# Altium schematic symbol library Converter_DCDC.SchLib: 947 symbols (part 6 of 12)
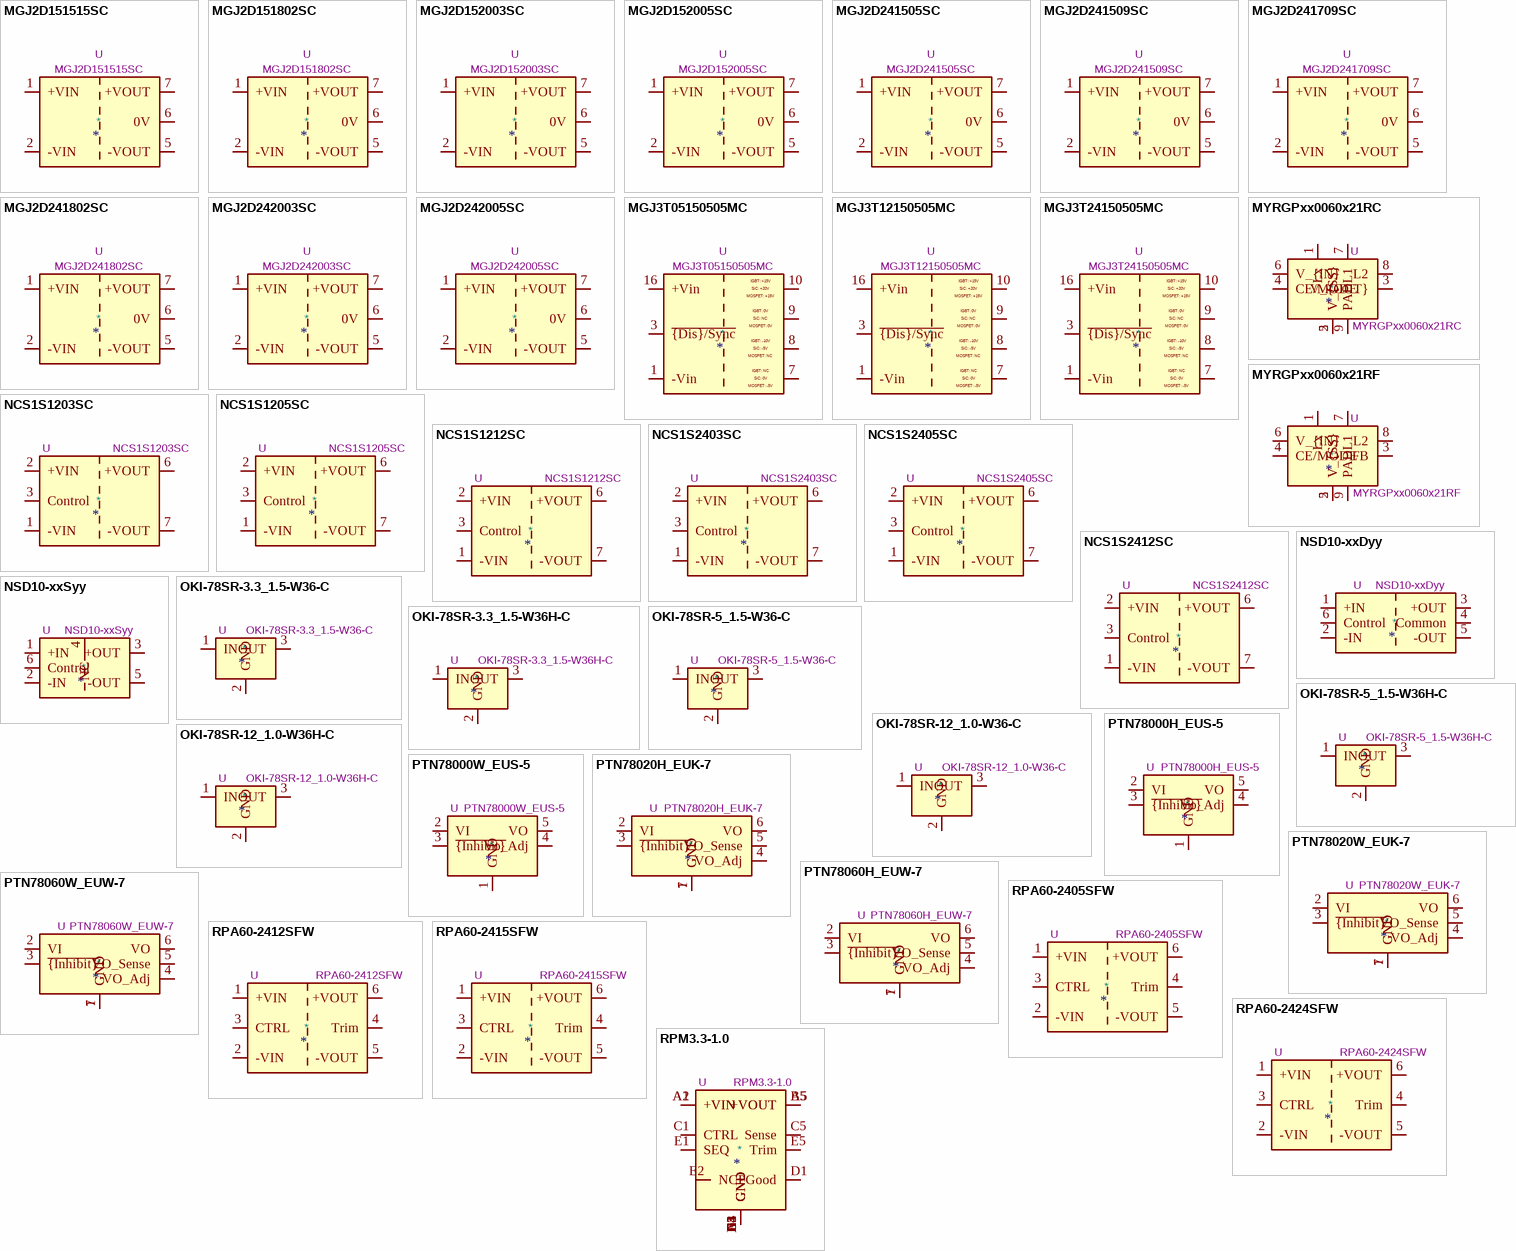
[diagram p28: symbols MGJ2D151515SC to RPM3.3-1.0]

## MGJ2D151802SC
designator *  value MGJ2D151802SC  Reference: U
5.2kVDC Isolated 2W Gate Drive, 15V Vin, +18V/-2.5V Vout; ki_keywords: DC/DC converter; ki_fp_filters: Converter*DCDC*Murata*MGJ2DxxxxxxSC*; Footprint: Converter_DCDC:Converter_DCDC_Murata_MGJ2DxxxxxxSC_THT; Datasheet: https://power.murata.com/pub/data/power/ncl/kdc_mgj2.pdf; Description_: 5.2kVDC Isolated 2W Gate Drive, 15V Vin, +18V/-2.5V Vout
pins: 1 +VIN, 2 -VIN, 5 -VOUT, 6 0V, 7 +VOUT

## MGJ2D152003SC
designator *  value MGJ2D152003SC  Reference: U
5.2kVDC Isolated 2W Gate Drive, 15V Vin, +20V/-3.5V Vout; ki_keywords: DC/DC converter; ki_fp_filters: Converter*DCDC*Murata*MGJ2DxxxxxxSC*; Footprint: Converter_DCDC:Converter_DCDC_Murata_MGJ2DxxxxxxSC_THT; Datasheet: https://power.murata.com/pub/data/power/ncl/kdc_mgj2.pdf; Description_: 5.2kVDC Isolated 2W Gate Drive, 15V Vin, +20V/-3.5V Vout
pins: 1 +VIN, 2 -VIN, 5 -VOUT, 6 0V, 7 +VOUT

## MGJ2D152005SC
designator *  value MGJ2D152005SC  Reference: U
5.2kVDC Isolated 2W Gate Drive, 15V Vin, +20V/-5V Vout; ki_keywords: DC/DC converter; ki_fp_filters: Converter*DCDC*Murata*MGJ2DxxxxxxSC*; Footprint: Converter_DCDC:Converter_DCDC_Murata_MGJ2DxxxxxxSC_THT; Datasheet: https://power.murata.com/pub/data/power/ncl/kdc_mgj2.pdf; Description_: 5.2kVDC Isolated 2W Gate Drive, 15V Vin, +20V/-5V Vout
pins: 1 +VIN, 2 -VIN, 5 -VOUT, 6 0V, 7 +VOUT

## MGJ2D241505SC
designator *  value MGJ2D241505SC  Reference: U
5.2kVDC Isolated 2W Gate Drive, 24V Vin, +15V/-5V Vout; ki_keywords: DC/DC converter; ki_fp_filters: Converter*DCDC*Murata*MGJ2DxxxxxxSC*; Footprint: Converter_DCDC:Converter_DCDC_Murata_MGJ2DxxxxxxSC_THT; Datasheet: https://power.murata.com/pub/data/power/ncl/kdc_mgj2.pdf; Description_: 5.2kVDC Isolated 2W Gate Drive, 24V Vin, +15V/-5V Vout
pins: 1 +VIN, 2 -VIN, 5 -VOUT, 6 0V, 7 +VOUT

## MGJ2D241509SC
designator *  value MGJ2D241509SC  Reference: U
5.2kVDC Isolated 2W Gate Drive, 24V Vin, +15V/-8.7V Vout; ki_keywords: DC/DC converter; ki_fp_filters: Converter*DCDC*Murata*MGJ2DxxxxxxSC*; Footprint: Converter_DCDC:Converter_DCDC_Murata_MGJ2DxxxxxxSC_THT; Datasheet: https://power.murata.com/pub/data/power/ncl/kdc_mgj2.pdf; Description_: 5.2kVDC Isolated 2W Gate Drive, 24V Vin, +15V/-8.7V Vout
pins: 1 +VIN, 2 -VIN, 5 -VOUT, 6 0V, 7 +VOUT

## MGJ2D241709SC
designator *  value MGJ2D241709SC  Reference: U
5.2kVDC Isolated 2W Gate Drive, 24V Vin, +17V/-9V Vout; ki_keywords: DC/DC converter; ki_fp_filters: Converter*DCDC*Murata*MGJ2DxxxxxxSC*; Footprint: Converter_DCDC:Converter_DCDC_Murata_MGJ2DxxxxxxSC_THT; Datasheet: https://power.murata.com/pub/data/power/ncl/kdc_mgj2.pdf; Description_: 5.2kVDC Isolated 2W Gate Drive, 24V Vin, +17V/-9V Vout
pins: 1 +VIN, 2 -VIN, 5 -VOUT, 6 0V, 7 +VOUT

## MGJ2D241802SC
designator *  value MGJ2D241802SC  Reference: U
5.2kVDC Isolated 2W Gate Drive, 24V Vin, +18V/-2.5V Vout; ki_keywords: DC/DC converter; ki_fp_filters: Converter*DCDC*Murata*MGJ2DxxxxxxSC*; Footprint: Converter_DCDC:Converter_DCDC_Murata_MGJ2DxxxxxxSC_THT; Datasheet: https://power.murata.com/pub/data/power/ncl/kdc_mgj2.pdf; Description_: 5.2kVDC Isolated 2W Gate Drive, 24V Vin, +18V/-2.5V Vout
pins: 1 +VIN, 2 -VIN, 5 -VOUT, 6 0V, 7 +VOUT

## MGJ2D242003SC
designator *  value MGJ2D242003SC  Reference: U
5.2kVDC Isolated 2W Gate Drive, 24V Vin, +20V/-3.5V Vout; ki_keywords: DC/DC converter; ki_fp_filters: Converter*DCDC*Murata*MGJ2DxxxxxxSC*; Footprint: Converter_DCDC:Converter_DCDC_Murata_MGJ2DxxxxxxSC_THT; Datasheet: https://power.murata.com/pub/data/power/ncl/kdc_mgj2.pdf; Description_: 5.2kVDC Isolated 2W Gate Drive, 24V Vin, +20V/-3.5V Vout
pins: 1 +VIN, 2 -VIN, 5 -VOUT, 6 0V, 7 +VOUT

## MGJ2D242005SC
designator *  value MGJ2D242005SC  Reference: U
5.2kVDC Isolated 2W Gate Drive, 24V Vin, +20V/-5V Vout; ki_keywords: DC/DC converter; ki_fp_filters: Converter*DCDC*Murata*MGJ2DxxxxxxSC*; Footprint: Converter_DCDC:Converter_DCDC_Murata_MGJ2DxxxxxxSC_THT; Datasheet: https://power.murata.com/pub/data/power/ncl/kdc_mgj2.pdf; Description_: 5.2kVDC Isolated 2W Gate Drive, 24V Vin, +20V/-5V Vout
pins: 1 +VIN, 2 -VIN, 5 -VOUT, 6 0V, 7 +VOUT

## MGJ3T05150505MC
designator *  value MGJ3T05150505MC  Reference: U
5.2kVDC Isolated 3W Gate Drive, 4.5-9V Vin, +15V/-5V or +15V/-10V or +20V/-5V Vout; ki_keywords: DC/DC converter; ki_fp_filters: Converter*DCDC*Murata*MGJ3*; Footprint: Converter_DCDC:Converter_DCDC_Murata_MGJ3; Datasheet: https://power.murata.com/datasheet?/data/power/ncl/kdc_mgj3.pdf; Description_: 5.2kVDC Isolated 3W Gate Drive, 4.5-9V Vin, +15V/-5V or +15V/-10V or +20V/-5V Vout
pins: 1 -Vin, 3 ~{{Dis}/Sync}, 7, 8, 9, 10, 16 +Vin
text: IGBT: +15V; SiC: +20V; MOSFET: +15V; IGBT: 0V; SiC: NC; MOSFET: 0V; IGBT: -10V; SiC: -5V; MOSFET: NC; IGBT: NC; SiC: 0V; MOSFET: -5V

## MGJ3T12150505MC
designator *  value MGJ3T12150505MC  Reference: U
5.2kVDC Isolated 3W Gate Drive, 9-18V Vin, +15V/-5V or +15V/-10V or +20V/-5V Vout; ki_keywords: DC/DC converter; ki_fp_filters: Converter*DCDC*Murata*MGJ3*; Footprint: Converter_DCDC:Converter_DCDC_Murata_MGJ3; Datasheet: https://power.murata.com/datasheet?/data/power/ncl/kdc_mgj3.pdf; Description_: 5.2kVDC Isolated 3W Gate Drive, 9-18V Vin, +15V/-5V or +15V/-10V or +20V/-5V Vout
pins: 1 -Vin, 3 ~{{Dis}/Sync}, 7, 8, 9, 10, 16 +Vin
text: IGBT: +15V; SiC: +20V; MOSFET: +15V; IGBT: 0V; SiC: NC; MOSFET: 0V; IGBT: -10V; SiC: -5V; MOSFET: NC; IGBT: NC; SiC: 0V; MOSFET: -5V

## MGJ3T24150505MC
designator *  value MGJ3T24150505MC  Reference: U
5.2kVDC Isolated 3W Gate Drive, 18-36V Vin, +15V/-5V or +15V/-10V or +20V/-5V Vout; ki_keywords: DC/DC converter; ki_fp_filters: Converter*DCDC*Murata*MGJ3*; Footprint: Converter_DCDC:Converter_DCDC_Murata_MGJ3; Datasheet: https://power.murata.com/datasheet?/data/power/ncl/kdc_mgj3.pdf; Description_: 5.2kVDC Isolated 3W Gate Drive, 18-36V Vin, +15V/-5V or +15V/-10V or +20V/-5V Vout
pins: 1 -Vin, 3 ~{{Dis}/Sync}, 7, 8, 9, 10, 16 +Vin
text: IGBT: +15V; SiC: +20V; MOSFET: +15V; IGBT: 0V; SiC: NC; MOSFET: 0V; IGBT: -10V; SiC: -5V; MOSFET: NC; IGBT: NC; SiC: 0V; MOSFET: -5V

## MYRGPxx0060x21RC
designator *  value MYRGPxx0060x21RC  Reference: U
PicoBK Inductor Built-in Step-Down “mini DC/DC” Converters. 3MHz, input 2V to 6V, fixed output voltage 0.8V to 4V, 600mA output current. 2.5 x 2.0mm.; ki_keywords: Fixed step-down converter; ki_fp_filters: Converter?DCDC?Murata?MYRxP*; Footprint: Converter_DCDC:Converter_DCDC_Murata_MYRxP; Datasheet: https://www.murata.com/products/productdata/8816428285982/MYRGP-WB-RC.pdf; Description_: PicoBK Inductor Built-in Step-Down “mini DC/DC” Converters. 3MHz, input 2V to 6V, fixed output voltage 0.8V to 4V, 600mA output current. 2.5 x 2.0mm.
pins: 1 Lx, 2 V_{SS}, 3 V_{OUT}, 4 CE/MODE, 5 V_{SS}, 6 V_{IN}, 7 L1, 8 L2, 9 PAD

## MYRGPxx0060x21RF
designator *  value MYRGPxx0060x21RF  Reference: U
PicoBK Inductor Built-in Step-Down “mini DC/DC” Converters. 3MHz, input 1.8V to 6V, adjustable output voltage 0.9V to 4V, 600mA output current. 2.5 x 2.0mm.; ki_keywords: Adjustable step-down converter; ki_fp_filters: Converter?DCDC?Murata?MYRxP*; Footprint: Converter_DCDC:Converter_DCDC_Murata_MYRxP; Datasheet: https://www.murata.com/products/productdata/8816428318750/MYRGP-WB-RF.pdf; Description_: PicoBK Inductor Built-in Step-Down “mini DC/DC” Converters. 3MHz, input 1.8V to 6V, adjustable output voltage 0.9V to 4V, 600mA output current. 2.5 x 2.0mm.
pins: 1 Lx, 2 V_{SS}, 3 FB, 4 CE/MODE, 5 V_{SS}, 6 V_{IN}, 7 L1, 8 L2, 9 PAD

## NCS1S1203SC
designator *  value NCS1S1203SC  Reference: U
Isolated 1W 4:1 input DC/DC converter module, 4.5-18V input voltage, 3.3V output voltage, SIP; ki_keywords: Murata isolated isolation dc-dc converter step-down; ki_fp_filters: Converter*DCDC*Murata*NCS1SxxxxSC*; Footprint: Converter_DCDC:Converter_DCDC_Murata_NCS1SxxxxSC_THT; Datasheet: https://power.murata.com/data/power/ncl/kdc_ncs1.pdf; Description_: Isolated 1W 4:1 input DC/DC converter module, 4.5-18V input voltage, 3.3V output voltage, SIP
pins: 1 -VIN, 2 +VIN, 3 Control, 6 +VOUT, 7 -VOUT

## NCS1S1205SC
designator *  value NCS1S1205SC  Reference: U
Isolated 1W 4:1 input DC/DC converter module, 4.5-18V input voltage, 5.0V output voltage, SIP; ki_keywords: Murata isolated isolation dc-dc converter step-down; ki_fp_filters: Converter*DCDC*Murata*NCS1SxxxxSC*; Footprint: Converter_DCDC:Converter_DCDC_Murata_NCS1SxxxxSC_THT; Datasheet: https://power.murata.com/data/power/ncl/kdc_ncs1.pdf; Description_: Isolated 1W 4:1 input DC/DC converter module, 4.5-18V input voltage, 5.0V output voltage, SIP
pins: 1 -VIN, 2 +VIN, 3 Control, 6 +VOUT, 7 -VOUT

## NCS1S1212SC
designator *  value NCS1S1212SC  Reference: U
Isolated 1W 4:1 input DC/DC converter module, 4.5-18V input voltage, 12.0V output voltage, SIP; ki_keywords: Murata isolated isolation dc-dc converter step-down; ki_fp_filters: Converter*DCDC*Murata*NCS1SxxxxSC*; Footprint: Converter_DCDC:Converter_DCDC_Murata_NCS1SxxxxSC_THT; Datasheet: https://power.murata.com/data/power/ncl/kdc_ncs1.pdf; Description_: Isolated 1W 4:1 input DC/DC converter module, 4.5-18V input voltage, 12.0V output voltage, SIP
pins: 1 -VIN, 2 +VIN, 3 Control, 6 +VOUT, 7 -VOUT

## NCS1S2403SC
designator *  value NCS1S2403SC  Reference: U
Isolated 1W 4:1 input DC/DC converter module, 9-36V input voltage, 3.3V output voltage, SIP; ki_keywords: Murata isolated isolation dc-dc converter step-down; ki_fp_filters: Converter*DCDC*Murata*NCS1SxxxxSC*; Footprint: Converter_DCDC:Converter_DCDC_Murata_NCS1SxxxxSC_THT; Datasheet: https://power.murata.com/data/power/ncl/kdc_ncs1.pdf; Description_: Isolated 1W 4:1 input DC/DC converter module, 9-36V input voltage, 3.3V output voltage, SIP
pins: 1 -VIN, 2 +VIN, 3 Control, 6 +VOUT, 7 -VOUT

## NCS1S2405SC
designator *  value NCS1S2405SC  Reference: U
Isolated 1W 4:1 input DC/DC converter module, 9-36V input voltage, 5.0V output voltage, SIP; ki_keywords: Murata isolated isolation dc-dc converter step-down; ki_fp_filters: Converter*DCDC*Murata*NCS1SxxxxSC*; Footprint: Converter_DCDC:Converter_DCDC_Murata_NCS1SxxxxSC_THT; Datasheet: https://power.murata.com/data/power/ncl/kdc_ncs1.pdf; Description_: Isolated 1W 4:1 input DC/DC converter module, 9-36V input voltage, 5.0V output voltage, SIP
pins: 1 -VIN, 2 +VIN, 3 Control, 6 +VOUT, 7 -VOUT

## NCS1S2412SC
designator *  value NCS1S2412SC  Reference: U
Isolated 1W 4:1 input DC/DC converter module, 9-36V input voltage, 12.0V output voltage, SIP; ki_keywords: Murata isolated isolation dc-dc converter step-down; ki_fp_filters: Converter*DCDC*Murata*NCS1SxxxxSC*; Footprint: Converter_DCDC:Converter_DCDC_Murata_NCS1SxxxxSC_THT; Datasheet: https://power.murata.com/data/power/ncl/kdc_ncs1.pdf; Description_: Isolated 1W 4:1 input DC/DC converter module, 9-36V input voltage, 12.0V output voltage, SIP
pins: 1 -VIN, 2 +VIN, 3 Control, 6 +VOUT, 7 -VOUT

## NSD10-xxDyy
designator *  value NSD10-xxDyy  Reference: U
MeanWell 10W DC/DC converter, dual fixed output, 1kVDC isolation; ki_keywords: meanwell isolated isolation dc-dc DC/DC converter regulated dual 10W; ki_fp_filters: Converter*DCDC*MeanWell*NSD10*; Footprint: Converter_DCDC:Converter_DCDC_MeanWell_NSD10_THT; Datasheet: https://www.meanwell.com/webapp/product/search.aspx?prod=NSD10-D; Description_: MeanWell 10W DC/DC converter, dual fixed output, 1kVDC isolation
pins: 1 +IN, 2 -IN, 3 +OUT, 4 Common, 5 -OUT, 6 Control

## NSD10-xxSyy
designator *  value NSD10-xxSyy  Reference: U
MeanWell 10W DC/DC converter, fixed output, 1kVDC isolation; ki_keywords: meanwell isolated isolation dc-dc DC/DC converter regulated single 10W; ki_fp_filters: Converter*DCDC*MeanWell*NSD10*; Footprint: Converter_DCDC:Converter_DCDC_MeanWell_NSD10_THT; Datasheet: https://www.meanwell.com/webapp/product/search.aspx?prod=NSD10-S; Description_: MeanWell 10W DC/DC converter, fixed output, 1kVDC isolation
pins: 1 +IN, 2 -IN, 3 +OUT, 4 NC, 5 -OUT, 6 Control

## OKI-78SR-3.3_1.5-W36-C
designator *  value OKI-78SR-3.3_1.5-W36-C  Reference: U
1.5A Step-Down DC/DC-Regulator, 7-36V input, 3.3V fixed Output Voltage, LM78xx replacement, -40°C to +85°C, OKI-78SR_Vertical; ki_keywords: dc-dc murata Step-Down DC/DC-Regulator; ki_fp_filters: Converter*DCDC*Murata*OKI*78SR*Vertical*; Footprint: Converter_DCDC:Converter_DCDC_Murata_OKI-78SR_Vertical; Datasheet: https://power.murata.com/data/power/oki-78sr.pdf; Description_: 1.5A Step-Down DC/DC-Regulator, 7-36V input, 3.3V fixed Output Voltage, LM78xx replacement, -40°C to +85°C, OKI-78SR_Vertical
pins: 1 IN, 2 GND, 3 OUT

## OKI-78SR-3.3_1.5-W36H-C
designator *  value OKI-78SR-3.3_1.5-W36H-C  Reference: U
1.5A Step-Down DC/DC-Regulator, 7-36V input, 3.3V fixed Output Voltage, LM78xx replacement, -40°C to +85°C, OKI-78SR_Horizontal; ki_keywords: dc-dc murata Step-Down DC/DC-Regulator; ki_fp_filters: Converter*DCDC*Murata*OKI*78SR*Horizontal*; Footprint: Converter_DCDC:Converter_DCDC_Murata_OKI-78SR_Horizontal; Datasheet: https://power.murata.com/data/power/oki-78sr.pdf; Description_: 1.5A Step-Down DC/DC-Regulator, 7-36V input, 3.3V fixed Output Voltage, LM78xx replacement, -40°C to +85°C, OKI-78SR_Horizontal
pins: 1 IN, 2 GND, 3 OUT

## OKI-78SR-5_1.5-W36-C
designator *  value OKI-78SR-5_1.5-W36-C  Reference: U
1.5A Step-Down DC/DC-Regulator, 7-36V input, 5V fixed Output Voltage, LM78xx replacement, -40°C to +85°C, OKI-78SR_Vertical; ki_keywords: dc-dc murata Step-Down DC/DC-Regulator; ki_fp_filters: Converter*DCDC*Murata*OKI*78SR*Vertical*; Footprint: Converter_DCDC:Converter_DCDC_Murata_OKI-78SR_Vertical; Datasheet: https://power.murata.com/data/power/oki-78sr.pdf; Description_: 1.5A Step-Down DC/DC-Regulator, 7-36V input, 5V fixed Output Voltage, LM78xx replacement, -40°C to +85°C, OKI-78SR_Vertical
pins: 1 IN, 2 GND, 3 OUT

## OKI-78SR-5_1.5-W36H-C
designator *  value OKI-78SR-5_1.5-W36H-C  Reference: U
1.5A Step-Down DC/DC-Regulator, 7-36V input, 5V fixed Output Voltage, LM78xx replacement, -40°C to +85°C, OKI-78SR_Horizontal; ki_keywords: dc-dc murata Step-Down DC/DC-Regulator; ki_fp_filters: Converter*DCDC*Murata*OKI*78SR*Horizontal*; Footprint: Converter_DCDC:Converter_DCDC_Murata_OKI-78SR_Horizontal; Datasheet: https://power.murata.com/data/power/oki-78sr.pdf; Description_: 1.5A Step-Down DC/DC-Regulator, 7-36V input, 5V fixed Output Voltage, LM78xx replacement, -40°C to +85°C, OKI-78SR_Horizontal
pins: 1 IN, 2 GND, 3 OUT

## OKI-78SR-12_1.0-W36-C
designator *  value OKI-78SR-12_1.0-W36-C  Reference: U
1.0A Step-Down DC/DC-Regulator, 15-36V input, 12V fixed Output Voltage, LM78xx replacement, -40°C to +85°C, OKI-78SR_Vertical; ki_keywords: dc-dc murata Step-Down DC/DC-Regulator; ki_fp_filters: Converter*DCDC*Murata*OKI*78SR*Vertical*; Footprint: Converter_DCDC:Converter_DCDC_Murata_OKI-78SR_Vertical; Datasheet: https://power.murata.com/data/power/oki-78sr.pdf; Description_: 1.0A Step-Down DC/DC-Regulator, 15-36V input, 12V fixed Output Voltage, LM78xx replacement, -40°C to +85°C, OKI-78SR_Vertical
pins: 1 IN, 2 GND, 3 OUT

## OKI-78SR-12_1.0-W36H-C
designator *  value OKI-78SR-12_1.0-W36H-C  Reference: U
1.0A Step-Down DC/DC-Regulator, 15-36V input, 12V fixed Output Voltage, LM78xx replacement, -40°C to +85°C, OKI-78SR_Horizontal; ki_keywords: dc-dc murata Step-Down DC/DC-Regulator; ki_fp_filters: Converter*DCDC*Murata*OKI*78SR*Horizontal*; Footprint: Converter_DCDC:Converter_DCDC_Murata_OKI-78SR_Horizontal; Datasheet: https://power.murata.com/data/power/oki-78sr.pdf; Description_: 1.0A Step-Down DC/DC-Regulator, 15-36V input, 12V fixed Output Voltage, LM78xx replacement, -40°C to +85°C, OKI-78SR_Horizontal
pins: 1 IN, 2 GND, 3 OUT

## PTN78000H_EUS-5
designator *  value PTN78000H_EUS-5  Reference: U
1.5A non-isolated switching regulator power module, 7-36V input voltage, 11.85-22V output voltage, EUS-5; ki_keywords: texas dc-dc converter step down buck; ki_fp_filters: Texas*EUS*R?PDSS?T5*; Footprint: Module:Texas_EUS_R-PDSS-T5_THT; Datasheet: https://www.ti.com/lit/ds/symlink/ptn78000w.pdf; Description_: 1.5A non-isolated switching regulator power module, 7-36V input voltage, 11.85-22V output voltage, EUS-5
pins: 1 GND, 2 VI, 3 ~{{Inhibit}}, 4 Vo_Adj, 5 VO

## PTN78000W_EUS-5
designator *  value PTN78000W_EUS-5  Reference: U
1.5A non-isolated switching regulator power module, 7-36V input voltage, 2.5-12.6V output voltage, EUS-5; ki_keywords: texas dc-dc converter step down buck; ki_fp_filters: Texas*EUS*R?PDSS?T5*; Footprint: Module:Texas_EUS_R-PDSS-T5_THT; Datasheet: https://www.ti.com/lit/ds/symlink/ptn78000w.pdf; Description_: 1.5A non-isolated switching regulator power module, 7-36V input voltage, 2.5-12.6V output voltage, EUS-5
pins: 1 GND, 2 VI, 3 ~{{Inhibit}}, 4 Vo_Adj, 5 VO

## PTN78020H_EUK-7
designator *  value PTN78020H_EUK-7  Reference: U
6A non-isolated switching regulator power module, 7-36V input voltage, 11.85-22V output voltage, EUK-7; ki_keywords: texas dc-dc converter step down buck; ki_fp_filters: Texas*EUK*R?PDSS?T7*; Footprint: Module:Texas_EUK_R-PDSS-T7_THT; Datasheet: https://www.ti.com/lit/ds/symlink/ptn78020w.pdf; Description_: 6A non-isolated switching regulator power module, 7-36V input voltage, 11.85-22V output voltage, EUK-7
pins: 1 GND, 2 VI, 3 ~{{Inhibit}}, 4 VO_Adj, 5 VO_Sense, 6 VO, 7 GND

## PTN78020W_EUK-7
designator *  value PTN78020W_EUK-7  Reference: U
6A non-isolated switching regulator power module, 7-36V input voltage, 2.5-12.6V output voltage, EUK-7; ki_keywords: texas dc-dc converter step down buck; ki_fp_filters: Texas*EUK*R?PDSS?T7*; Footprint: Module:Texas_EUK_R-PDSS-T7_THT; Datasheet: https://www.ti.com/lit/ds/symlink/ptn78020w.pdf; Description_: 6A non-isolated switching regulator power module, 7-36V input voltage, 2.5-12.6V output voltage, EUK-7
pins: 1 GND, 2 VI, 3 ~{{Inhibit}}, 4 VO_Adj, 5 VO_Sense, 6 VO, 7 GND

## PTN78060H_EUW-7
designator *  value PTN78060H_EUW-7  Reference: U
3A non-isolated switching regulator power module, 7-36V input voltage, 11.85-22V output voltage, EUW-7; ki_keywords: texas dc-dc converter step down buck; ki_fp_filters: Texas*EUW*R?PDSS?T7*; Footprint: Module:Texas_EUW_R-PDSS-T7_THT; Datasheet: https://www.ti.com/lit/ds/symlink/ptn78060w.pdf; Description_: 3A non-isolated switching regulator power module, 7-36V input voltage, 11.85-22V output voltage, EUW-7
pins: 1 GND, 2 VI, 3 ~{{Inhibit}}, 4 VO_Adj, 5 VO_Sense, 6 VO, 7 GND

## PTN78060W_EUW-7
designator *  value PTN78060W_EUW-7  Reference: U
3A non-isolated switching regulator power module, 7-36V input voltage, 2.5-12.6V output voltage, EUW-7; ki_keywords: texas dc-dc converter step down buck; ki_fp_filters: Texas*EUW*R?PDSS?T7*; Footprint: Module:Texas_EUW_R-PDSS-T7_THT; Datasheet: https://www.ti.com/lit/ds/symlink/ptn78060w.pdf; Description_: 3A non-isolated switching regulator power module, 7-36V input voltage, 2.5-12.6V output voltage, EUW-7
pins: 1 GND, 2 VI, 3 ~{{Inhibit}}, 4 VO_Adj, 5 VO_Sense, 6 VO, 7 GND

## RPA60-2405SFW
designator *  value RPA60-2405SFW  Reference: U
Isolated 60W 4:1 input DC/DC converter module, 9-36V input voltage, 5V output voltage, DIP; ki_keywords: isolated isolation dc-dc converter step-down; ki_fp_filters: Converter*DCDC*RECOM*RPA60?xxxxSFW*; Footprint: Converter_DCDC:Converter_DCDC_RECOM_RPA60-xxxxSFW; Datasheet: https://recom-power.com/pdf/Powerline_DC-DC/RPA60-FW.pdf; Description_: Isolated 60W 4:1 input DC/DC converter module, 9-36V input voltage, 5V output voltage, DIP
pins: 1 +VIN, 2 -VIN, 3 CTRL, 4 Trim, 5 -VOUT, 6 +VOUT

## RPA60-2412SFW
designator *  value RPA60-2412SFW  Reference: U
Isolated 60W 4:1 input DC/DC converter module, 9-36V input voltage, 12V output voltage, DIP; ki_keywords: isolated isolation dc-dc converter step-down; ki_fp_filters: Converter*DCDC*RECOM*RPA60?xxxxSFW*; Footprint: Converter_DCDC:Converter_DCDC_RECOM_RPA60-xxxxSFW; Datasheet: https://recom-power.com/pdf/Powerline_DC-DC/RPA60-FW.pdf; Description_: Isolated 60W 4:1 input DC/DC converter module, 9-36V input voltage, 12V output voltage, DIP
pins: 1 +VIN, 2 -VIN, 3 CTRL, 4 Trim, 5 -VOUT, 6 +VOUT

## RPA60-2415SFW
designator *  value RPA60-2415SFW  Reference: U
Isolated 60W 4:1 input DC/DC converter module, 9-36V input voltage, 15V output voltage, DIP; ki_keywords: isolated isolation dc-dc converter step-down; ki_fp_filters: Converter*DCDC*RECOM*RPA60?xxxxSFW*; Footprint: Converter_DCDC:Converter_DCDC_RECOM_RPA60-xxxxSFW; Datasheet: https://recom-power.com/pdf/Powerline_DC-DC/RPA60-FW.pdf; Description_: Isolated 60W 4:1 input DC/DC converter module, 9-36V input voltage, 15V output voltage, DIP
pins: 1 +VIN, 2 -VIN, 3 CTRL, 4 Trim, 5 -VOUT, 6 +VOUT

## RPA60-2424SFW
designator *  value RPA60-2424SFW  Reference: U
Isolated 60W 4:1 input DC/DC converter module, 9-36V input voltage, 24V output voltage, DIP; ki_keywords: isolated isolation dc-dc converter step-down; ki_fp_filters: Converter*DCDC*RECOM*RPA60?xxxxSFW*; Footprint: Converter_DCDC:Converter_DCDC_RECOM_RPA60-xxxxSFW; Datasheet: https://recom-power.com/pdf/Powerline_DC-DC/RPA60-FW.pdf; Description_: Isolated 60W 4:1 input DC/DC converter module, 9-36V input voltage, 24V output voltage, DIP
pins: 1 +VIN, 2 -VIN, 3 CTRL, 4 Trim, 5 -VOUT, 6 +VOUT

## RPM3.3-1.0
designator *  value RPM3.3-1.0  Reference: U
1A non-isolated switching regulator power module, 3-17V input voltage, 3.3V output voltage, DOSA; ki_keywords: Recom dc-dc converter; ki_fp_filters: Converter*DCDC*RECOM*RPM*; Footprint: Converter_DCDC:Converter_DCDC_RECOM_RPMx.x-x.0; Datasheet: https://www.recom-power.com/pdf/Innoline/RPM-1.0.pdf; Description_: 1A non-isolated switching regulator power module, 3-17V input voltage, 3.3V output voltage, DOSA
pins: A1 +VIN, A2 +VIN, A3 GND, A4 GND, A5 +VOUT, B1 GND, B2 GND, B3 GND, B4 GND, B5 +VOUT, C1 CTRL, C2 GND, C3 GND, C4 GND, C5 Sense, D1 PGood, D2 GND, D3 GND, D4 GND, D5 GND, E1 SEQ, E2 NC, E3 GND, E4 GND, E5 Trim

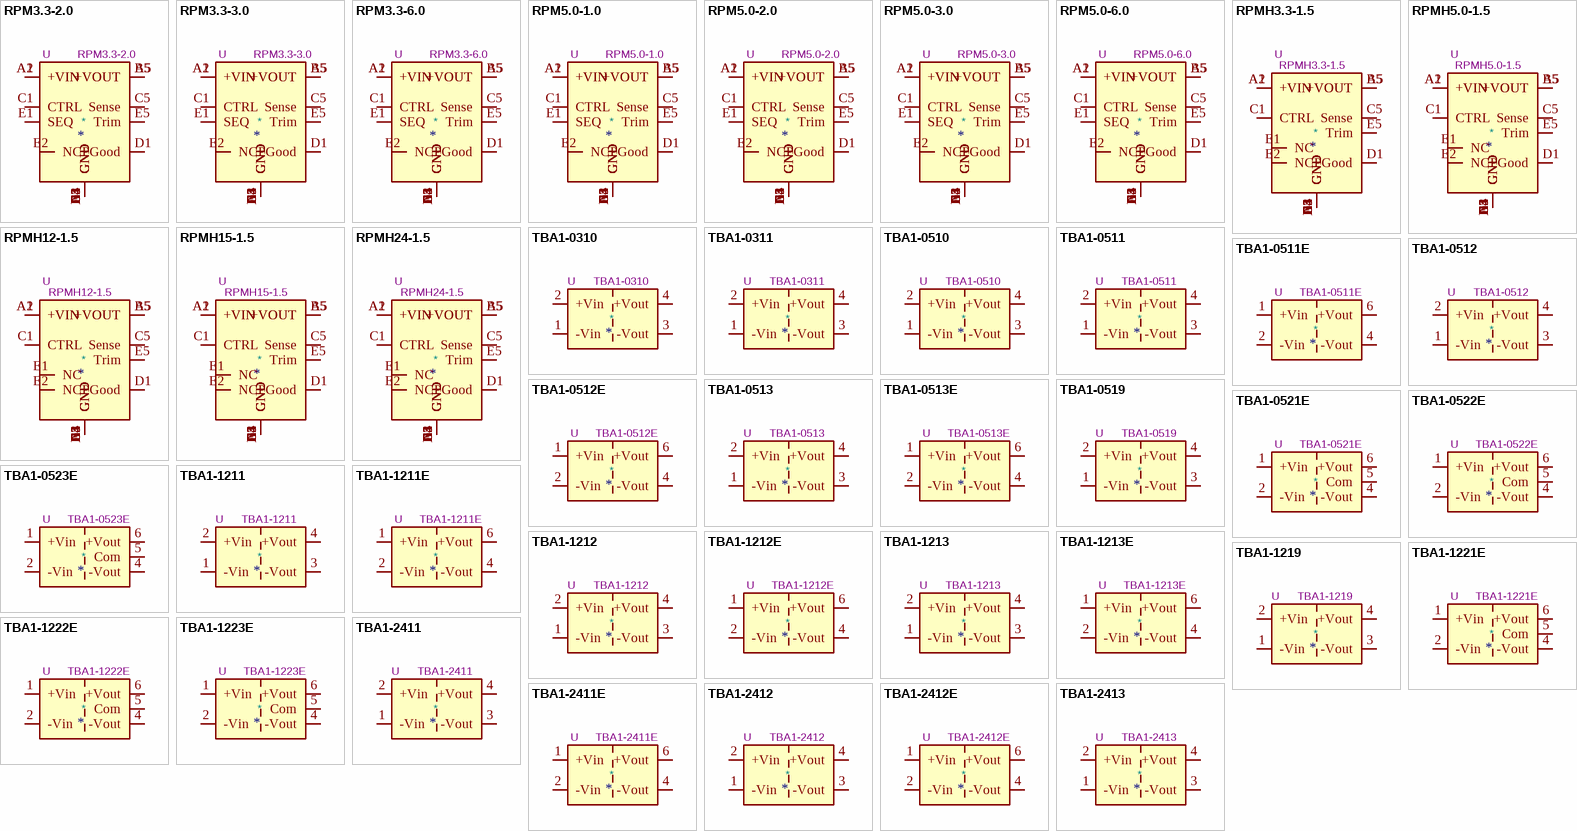
[diagram p12: symbols RPM3.3-2.0 to TBA1-2413]

## RPM3.3-2.0
designator *  value RPM3.3-2.0  Reference: U
2A non-isolated switching regulator power module, 3-17V input voltage, 3.3V output voltage, DOSA; ki_keywords: Recom dc-dc converter; ki_fp_filters: Converter*DCDC*RECOM*RPM*; Footprint: Converter_DCDC:Converter_DCDC_RECOM_RPMx.x-x.0; Datasheet: https://www.recom-power.com/pdf/Innoline/RPM-2.0.pdf; Description_: 2A non-isolated switching regulator power module, 3-17V input voltage, 3.3V output voltage, DOSA
pins: A1 +VIN, A2 +VIN, A3 GND, A4 GND, A5 +VOUT, B1 GND, B2 GND, B3 GND, B4 GND, B5 +VOUT, C1 CTRL, C2 GND, C3 GND, C4 GND, C5 Sense, D1 PGood, D2 GND, D3 GND, D4 GND, D5 GND, E1 SEQ, E2 NC, E3 GND, E4 GND, E5 Trim

## RPM3.3-3.0
designator *  value RPM3.3-3.0  Reference: U
3A non-isolated switching regulator power module, 3-17V input voltage, 3.3V output voltage, DOSA; ki_keywords: Recom dc-dc converter; ki_fp_filters: Converter*DCDC*RECOM*RPM*; Footprint: Converter_DCDC:Converter_DCDC_RECOM_RPMx.x-x.0; Datasheet: https://www.recom-power.com/pdf/Innoline/RPM-3.0.pdf; Description_: 3A non-isolated switching regulator power module, 3-17V input voltage, 3.3V output voltage, DOSA
pins: A1 +VIN, A2 +VIN, A3 GND, A4 GND, A5 +VOUT, B1 GND, B2 GND, B3 GND, B4 GND, B5 +VOUT, C1 CTRL, C2 GND, C3 GND, C4 GND, C5 Sense, D1 PGood, D2 GND, D3 GND, D4 GND, D5 GND, E1 SEQ, E2 NC, E3 GND, E4 GND, E5 Trim

## RPM3.3-6.0
designator *  value RPM3.3-6.0  Reference: U
6A non-isolated switching regulator power module, 4-15V input voltage, 3.3V output voltage, DOSA; ki_keywords: Recom dc-dc converter; ki_fp_filters: Converter*DCDC*RECOM*RPM*; Footprint: Converter_DCDC:Converter_DCDC_RECOM_RPMx.x-x.0; Datasheet: https://www.recom-power.com/pdf/Innoline/RPM-6.0.pdf; Description_: 6A non-isolated switching regulator power module, 4-15V input voltage, 3.3V output voltage, DOSA
pins: A1 +VIN, A2 +VIN, A3 GND, A4 GND, A5 +VOUT, B1 GND, B2 GND, B3 GND, B4 GND, B5 +VOUT, C1 CTRL, C2 GND, C3 GND, C4 GND, C5 Sense, D1 PGood, D2 GND, D3 GND, D4 GND, D5 GND, E1 SEQ, E2 NC, E3 GND, E4 GND, E5 Trim

## RPM5.0-1.0
designator *  value RPM5.0-1.0  Reference: U
1A non-isolated switching regulator power module, 3-17V input voltage, 5.0V output voltage, DOSA; ki_keywords: Recom dc-dc converter; ki_fp_filters: Converter*DCDC*RECOM*RPM*; Footprint: Converter_DCDC:Converter_DCDC_RECOM_RPMx.x-x.0; Datasheet: https://www.recom-power.com/pdf/Innoline/RPM-1.0.pdf; Description_: 1A non-isolated switching regulator power module, 3-17V input voltage, 5.0V output voltage, DOSA
pins: A1 +VIN, A2 +VIN, A3 GND, A4 GND, A5 +VOUT, B1 GND, B2 GND, B3 GND, B4 GND, B5 +VOUT, C1 CTRL, C2 GND, C3 GND, C4 GND, C5 Sense, D1 PGood, D2 GND, D3 GND, D4 GND, D5 GND, E1 SEQ, E2 NC, E3 GND, E4 GND, E5 Trim

## RPM5.0-2.0
designator *  value RPM5.0-2.0  Reference: U
2A non-isolated switching regulator power module, 3-17V input voltage, 5.0V output voltage, DOSA; ki_keywords: Recom dc-dc converter; ki_fp_filters: Converter*DCDC*RECOM*RPM*; Footprint: Converter_DCDC:Converter_DCDC_RECOM_RPMx.x-x.0; Datasheet: https://www.recom-power.com/pdf/Innoline/RPM-2.0.pdf; Description_: 2A non-isolated switching regulator power module, 3-17V input voltage, 5.0V output voltage, DOSA
pins: A1 +VIN, A2 +VIN, A3 GND, A4 GND, A5 +VOUT, B1 GND, B2 GND, B3 GND, B4 GND, B5 +VOUT, C1 CTRL, C2 GND, C3 GND, C4 GND, C5 Sense, D1 PGood, D2 GND, D3 GND, D4 GND, D5 GND, E1 SEQ, E2 NC, E3 GND, E4 GND, E5 Trim

## RPM5.0-3.0
designator *  value RPM5.0-3.0  Reference: U
3A non-isolated switching regulator power module, 3-17V input voltage, 5.0V output voltage, DOSA; ki_keywords: Recom dc-dc converter; ki_fp_filters: Converter*DCDC*RECOM*RPM*; Footprint: Converter_DCDC:Converter_DCDC_RECOM_RPMx.x-x.0; Datasheet: https://www.recom-power.com/pdf/Innoline/RPM-3.0.pdf; Description_: 3A non-isolated switching regulator power module, 3-17V input voltage, 5.0V output voltage, DOSA
pins: A1 +VIN, A2 +VIN, A3 GND, A4 GND, A5 +VOUT, B1 GND, B2 GND, B3 GND, B4 GND, B5 +VOUT, C1 CTRL, C2 GND, C3 GND, C4 GND, C5 Sense, D1 PGood, D2 GND, D3 GND, D4 GND, D5 GND, E1 SEQ, E2 NC, E3 GND, E4 GND, E5 Trim

## RPM5.0-6.0
designator *  value RPM5.0-6.0  Reference: U
6A non-isolated switching regulator power module, 4-15V input voltage, 5.0V output voltage, DOSA; ki_keywords: Recom dc-dc converter; ki_fp_filters: Converter*DCDC*RECOM*RPM*; Footprint: Converter_DCDC:Converter_DCDC_RECOM_RPMx.x-x.0; Datasheet: https://www.recom-power.com/pdf/Innoline/RPM-6.0.pdf; Description_: 6A non-isolated switching regulator power module, 4-15V input voltage, 5.0V output voltage, DOSA
pins: A1 +VIN, A2 +VIN, A3 GND, A4 GND, A5 +VOUT, B1 GND, B2 GND, B3 GND, B4 GND, B5 +VOUT, C1 CTRL, C2 GND, C3 GND, C4 GND, C5 Sense, D1 PGood, D2 GND, D3 GND, D4 GND, D5 GND, E1 SEQ, E2 NC, E3 GND, E4 GND, E5 Trim

## RPMH3.3-1.5
designator *  value RPMH3.3-1.5  Reference: U
1.5A non-isolated switching regulator power module, 5-60V input voltage, 3.3V output voltage; ki_keywords: Recom DC-DC converter; ki_fp_filters: Converter*DCDC*RECOM*RPM*; Footprint: Converter_DCDC:Converter_DCDC_RECOM_RPMx.x-x.0; Datasheet: https://recom-power.com/pdf/Innoline/RPMH-1.5.pdf; Description_: 1.5A non-isolated switching regulator power module, 5-60V input voltage, 3.3V output voltage
pins: A1 +VIN, A2 +VIN, A3 GND, A4 GND, A5 +VOUT, B1 GND, B2 GND, B3 GND, B4 GND, B5 +VOUT, C1 CTRL, C2 GND, C3 GND, C4 GND, C5 Sense, D1 PGood, D2 GND, D3 GND, D4 GND, D5 GND, E1 NC, E2 NC, E3 GND, E4 GND, E5 Trim

## RPMH5.0-1.5
designator *  value RPMH5.0-1.5  Reference: U
1.5A non-isolated switching regulator power module, 7-60V input voltage, 5V output voltage; ki_keywords: Recom DC-DC converter; ki_fp_filters: Converter*DCDC*RECOM*RPM*; Footprint: Converter_DCDC:Converter_DCDC_RECOM_RPMx.x-x.0; Datasheet: https://recom-power.com/pdf/Innoline/RPMH-1.5.pdf; Description_: 1.5A non-isolated switching regulator power module, 7-60V input voltage, 5V output voltage
pins: A1 +VIN, A2 +VIN, A3 GND, A4 GND, A5 +VOUT, B1 GND, B2 GND, B3 GND, B4 GND, B5 +VOUT, C1 CTRL, C2 GND, C3 GND, C4 GND, C5 Sense, D1 PGood, D2 GND, D3 GND, D4 GND, D5 GND, E1 NC, E2 NC, E3 GND, E4 GND, E5 Trim

## RPMH12-1.5
designator *  value RPMH12-1.5  Reference: U
1.5A non-isolated switching regulator power module, 14-60V input voltage, 12V output voltage; ki_keywords: Recom DC-DC converter; ki_fp_filters: Converter*DCDC*RECOM*RPM*; Footprint: Converter_DCDC:Converter_DCDC_RECOM_RPMx.x-x.0; Datasheet: https://recom-power.com/pdf/Innoline/RPMH-1.5.pdf; Description_: 1.5A non-isolated switching regulator power module, 14-60V input voltage, 12V output voltage
pins: A1 +VIN, A2 +VIN, A3 GND, A4 GND, A5 +VOUT, B1 GND, B2 GND, B3 GND, B4 GND, B5 +VOUT, C1 CTRL, C2 GND, C3 GND, C4 GND, C5 Sense, D1 PGood, D2 GND, D3 GND, D4 GND, D5 GND, E1 NC, E2 NC, E3 GND, E4 GND, E5 Trim

## RPMH15-1.5
designator *  value RPMH15-1.5  Reference: U
1.5A non-isolated switching regulator power module, 17-60V input voltage, 15V output voltage; ki_keywords: Recom DC-DC converter; ki_fp_filters: Converter*DCDC*RECOM*RPM*; Footprint: Converter_DCDC:Converter_DCDC_RECOM_RPMx.x-x.0; Datasheet: https://recom-power.com/pdf/Innoline/RPMH-1.5.pdf; Description_: 1.5A non-isolated switching regulator power module, 17-60V input voltage, 15V output voltage
pins: A1 +VIN, A2 +VIN, A3 GND, A4 GND, A5 +VOUT, B1 GND, B2 GND, B3 GND, B4 GND, B5 +VOUT, C1 CTRL, C2 GND, C3 GND, C4 GND, C5 Sense, D1 PGood, D2 GND, D3 GND, D4 GND, D5 GND, E1 NC, E2 NC, E3 GND, E4 GND, E5 Trim

## RPMH24-1.5
designator *  value RPMH24-1.5  Reference: U
1.5A non-isolated switching regulator power module, 26-60V input voltage, 24V output voltage; ki_keywords: Recom DC-DC converter; ki_fp_filters: Converter*DCDC*RECOM*RPM*; Footprint: Converter_DCDC:Converter_DCDC_RECOM_RPMx.x-x.0; Datasheet: https://recom-power.com/pdf/Innoline/RPMH-1.5.pdf; Description_: 1.5A non-isolated switching regulator power module, 26-60V input voltage, 24V output voltage
pins: A1 +VIN, A2 +VIN, A3 GND, A4 GND, A5 +VOUT, B1 GND, B2 GND, B3 GND, B4 GND, B5 +VOUT, C1 CTRL, C2 GND, C3 GND, C4 GND, C5 Sense, D1 PGood, D2 GND, D3 GND, D4 GND, D5 GND, E1 NC, E2 NC, E3 GND, E4 GND, E5 Trim

## TBA1-0310
designator *  value TBA1-0310  Reference: U
1W DC/DC converter unregulated, 2.97-3.63V input, 3.3V fixed output voltage, 260mA output, 1.5kVDC isolation, SIP-4; ki_keywords: Traco isolated dc-dc not-regulated non-regulated single; ki_fp_filters: Converter*DCDC*TRACO*TBA1*xxxx*THT*; Footprint: Converter_DCDC:Converter_DCDC_TRACO_TBA1-xxxx_THT; Datasheet: https://www.tracopower.com/products/tba1.pdf; Description_: 1W DC/DC converter unregulated, 2.97-3.63V input, 3.3V fixed output voltage, 260mA output, 1.5kVDC isolation, SIP-4
pins: 1 -Vin, 2 +Vin, 3 -Vout, 4 +Vout

## TBA1-0311
designator *  value TBA1-0311  Reference: U
1W DC/DC converter unregulated, 2.97-3.63V input, 5V fixed output voltage, 200mA output, 1.5kVDC isolation, SIP-4; ki_keywords: Traco isolated dc-dc not-regulated non-regulated single; ki_fp_filters: Converter*DCDC*TRACO*TBA1*xxxx*THT*; Footprint: Converter_DCDC:Converter_DCDC_TRACO_TBA1-xxxx_THT; Datasheet: https://www.tracopower.com/products/tba1.pdf; Description_: 1W DC/DC converter unregulated, 2.97-3.63V input, 5V fixed output voltage, 200mA output, 1.5kVDC isolation, SIP-4
pins: 1 -Vin, 2 +Vin, 3 -Vout, 4 +Vout

## TBA1-0510
designator *  value TBA1-0510  Reference: U
1W DC/DC converter unregulated, 4.5-5.5V input, 3.3V fixed output voltage, 260mA output, 1.5kVDC isolation, SIP-4; ki_keywords: Traco isolated dc-dc not-regulated non-regulated single; ki_fp_filters: Converter*DCDC*TRACO*TBA1*xxxx*THT*; Footprint: Converter_DCDC:Converter_DCDC_TRACO_TBA1-xxxx_THT; Datasheet: https://www.tracopower.com/products/tba1.pdf; Description_: 1W DC/DC converter unregulated, 4.5-5.5V input, 3.3V fixed output voltage, 260mA output, 1.5kVDC isolation, SIP-4
pins: 1 -Vin, 2 +Vin, 3 -Vout, 4 +Vout

## TBA1-0511
designator *  value TBA1-0511  Reference: U
1W DC/DC converter unregulated, 4.5-5.5V input, 5V fixed output voltage, 200mA output, 1.5kVDC isolation, SIP-4; ki_keywords: Traco isolated dc-dc not-regulated non-regulated single; ki_fp_filters: Converter*DCDC*TRACO*TBA1*xxxx*THT*; Footprint: Converter_DCDC:Converter_DCDC_TRACO_TBA1-xxxx_THT; Datasheet: https://www.tracopower.com/products/tba1.pdf; Description_: 1W DC/DC converter unregulated, 4.5-5.5V input, 5V fixed output voltage, 200mA output, 1.5kVDC isolation, SIP-4
pins: 1 -Vin, 2 +Vin, 3 -Vout, 4 +Vout

## TBA1-0511E
designator *  value TBA1-0511E  Reference: U
1W DC/DC converter unregulated, 4.5-5.5V input, 5V fixed output voltage, 200mA output, 1.5kVDC isolation, SIP-7; ki_keywords: Traco isolated isolation dc-dc converter not-regulated non-regulated single 1W; ki_fp_filters: Converter*DCDC*TRACO*TBA1*xxxxE*Single*; Footprint: Converter_DCDC:Converter_DCDC_TRACO_TBA1-xxxxE_Single_THT; Datasheet: https://www.tracopower.com/products/tba1e.pdf; Description_: 1W DC/DC converter unregulated, 4.5-5.5V input, 5V fixed output voltage, 200mA output, 1.5kVDC isolation, SIP-7
pins: 1 +Vin, 2 -Vin, 4 -Vout, 6 +Vout

## TBA1-0512
designator *  value TBA1-0512  Reference: U
1W DC/DC converter unregulated, 4.5-5.5V input, 12V fixed output voltage, 80mA output, 1.5kVDC isolation, SIP-4; ki_keywords: Traco isolated dc-dc not-regulated non-regulated single; ki_fp_filters: Converter*DCDC*TRACO*TBA1*xxxx*THT*; Footprint: Converter_DCDC:Converter_DCDC_TRACO_TBA1-xxxx_THT; Datasheet: https://www.tracopower.com/products/tba1.pdf; Description_: 1W DC/DC converter unregulated, 4.5-5.5V input, 12V fixed output voltage, 80mA output, 1.5kVDC isolation, SIP-4
pins: 1 -Vin, 2 +Vin, 3 -Vout, 4 +Vout

## TBA1-0512E
designator *  value TBA1-0512E  Reference: U
1W DC/DC converter unregulated, 4.5-5.5V input, 12V fixed output voltage, 84mA output, 1.5kVDC isolation, SIP-7; ki_keywords: Traco isolated isolation dc-dc converter not-regulated non-regulated single 1W; ki_fp_filters: Converter*DCDC*TRACO*TBA1*xxxxE*Single*; Footprint: Converter_DCDC:Converter_DCDC_TRACO_TBA1-xxxxE_Single_THT; Datasheet: https://www.tracopower.com/products/tba1e.pdf; Description_: 1W DC/DC converter unregulated, 4.5-5.5V input, 12V fixed output voltage, 84mA output, 1.5kVDC isolation, SIP-7
pins: 1 +Vin, 2 -Vin, 4 -Vout, 6 +Vout

## TBA1-0513
designator *  value TBA1-0513  Reference: U
1W DC/DC converter unregulated, 4.5-5.5V input, 15V fixed output voltage, 65mA output, 1.5kVDC isolation, SIP-4; ki_keywords: Traco isolated dc-dc not-regulated non-regulated single; ki_fp_filters: Converter*DCDC*TRACO*TBA1*xxxx*THT*; Footprint: Converter_DCDC:Converter_DCDC_TRACO_TBA1-xxxx_THT; Datasheet: https://www.tracopower.com/products/tba1.pdf; Description_: 1W DC/DC converter unregulated, 4.5-5.5V input, 15V fixed output voltage, 65mA output, 1.5kVDC isolation, SIP-4
pins: 1 -Vin, 2 +Vin, 3 -Vout, 4 +Vout

## TBA1-0513E
designator *  value TBA1-0513E  Reference: U
1W DC/DC converter unregulated, 4.5-5.5V input, 15V fixed output voltage, 66mA output, 1.5kVDC isolation, SIP-7; ki_keywords: Traco isolated isolation dc-dc converter not-regulated non-regulated single 1W; ki_fp_filters: Converter*DCDC*TRACO*TBA1*xxxxE*Single*; Footprint: Converter_DCDC:Converter_DCDC_TRACO_TBA1-xxxxE_Single_THT; Datasheet: https://www.tracopower.com/products/tba1e.pdf; Description_: 1W DC/DC converter unregulated, 4.5-5.5V input, 15V fixed output voltage, 66mA output, 1.5kVDC isolation, SIP-7
pins: 1 +Vin, 2 -Vin, 4 -Vout, 6 +Vout

## TBA1-0519
designator *  value TBA1-0519  Reference: U
1W DC/DC converter unregulated, 4.5-5.5V input, 9V fixed output voltage, 110mA output, 1.5kVDC isolation, SIP-4; ki_keywords: Traco isolated dc-dc not-regulated non-regulated single; ki_fp_filters: Converter*DCDC*TRACO*TBA1*xxxx*THT*; Footprint: Converter_DCDC:Converter_DCDC_TRACO_TBA1-xxxx_THT; Datasheet: https://www.tracopower.com/products/tba1.pdf; Description_: 1W DC/DC converter unregulated, 4.5-5.5V input, 9V fixed output voltage, 110mA output, 1.5kVDC isolation, SIP-4
pins: 1 -Vin, 2 +Vin, 3 -Vout, 4 +Vout

## TBA1-0521E
designator *  value TBA1-0521E  Reference: U
1W DC/DC converter unregulated, 4.5-5.5V input, ±5V fixed output voltage, 100mA each output, 1.5kVDC isolation, SIP-7; ki_keywords: Traco isolated isolation dc-dc DC/DC converter not-regulated non-regulated dual 1W; ki_fp_filters: Converter*DCDC*TRACO*TBA1*xxxxE*Dual*; Footprint: Converter_DCDC:Converter_DCDC_TRACO_TBA1-xxxxE_Dual_THT; Datasheet: https://www.tracopower.com/products/tba1e.pdf; Description_: 1W DC/DC converter unregulated, 4.5-5.5V input, ±5V fixed output voltage, 100mA each output, 1.5kVDC isolation, SIP-7
pins: 1 +Vin, 2 -Vin, 4 -Vout, 5 Com, 6 +Vout

## TBA1-0522E
designator *  value TBA1-0522E  Reference: U
1W DC/DC converter unregulated, 4.5-5.5V input, ±12V fixed output voltage, 41mA each output, 1.5kVDC isolation, SIP-7; ki_keywords: Traco isolated isolation dc-dc DC/DC converter not-regulated non-regulated dual 1W; ki_fp_filters: Converter*DCDC*TRACO*TBA1*xxxxE*Dual*; Footprint: Converter_DCDC:Converter_DCDC_TRACO_TBA1-xxxxE_Dual_THT; Datasheet: https://www.tracopower.com/products/tba1e.pdf; Description_: 1W DC/DC converter unregulated, 4.5-5.5V input, ±12V fixed output voltage, 41mA each output, 1.5kVDC isolation, SIP-7
pins: 1 +Vin, 2 -Vin, 4 -Vout, 5 Com, 6 +Vout

## TBA1-0523E
designator *  value TBA1-0523E  Reference: U
1W DC/DC converter unregulated, 4.5-5.5V input, ±15V fixed output voltage, 33mA each output, 1.5kVDC isolation, SIP-7; ki_keywords: Traco isolated isolation dc-dc DC/DC converter not-regulated non-regulated dual 1W; ki_fp_filters: Converter*DCDC*TRACO*TBA1*xxxxE*Dual*; Footprint: Converter_DCDC:Converter_DCDC_TRACO_TBA1-xxxxE_Dual_THT; Datasheet: https://www.tracopower.com/products/tba1e.pdf; Description_: 1W DC/DC converter unregulated, 4.5-5.5V input, ±15V fixed output voltage, 33mA each output, 1.5kVDC isolation, SIP-7
pins: 1 +Vin, 2 -Vin, 4 -Vout, 5 Com, 6 +Vout

## TBA1-1211
designator *  value TBA1-1211  Reference: U
1W DC/DC converter unregulated, 10.8-13.2V input, 5V fixed output voltage, 200mA output, 1.5kVDC isolation, SIP-4; ki_keywords: Traco isolated dc-dc not-regulated non-regulated single; ki_fp_filters: Converter*DCDC*TRACO*TBA1*xxxx*THT*; Footprint: Converter_DCDC:Converter_DCDC_TRACO_TBA1-xxxx_THT; Datasheet: https://www.tracopower.com/products/tba1.pdf; Description_: 1W DC/DC converter unregulated, 10.8-13.2V input, 5V fixed output voltage, 200mA output, 1.5kVDC isolation, SIP-4
pins: 1 -Vin, 2 +Vin, 3 -Vout, 4 +Vout

## TBA1-1211E
designator *  value TBA1-1211E  Reference: U
1W DC/DC converter unregulated, 10.8-13.2V input, 5V fixed output voltage, 200mA output, 1.5kVDC isolation, SIP-7; ki_keywords: Traco isolated isolation dc-dc converter not-regulated non-regulated single 1W; ki_fp_filters: Converter*DCDC*TRACO*TBA1*xxxxE*Single*; Footprint: Converter_DCDC:Converter_DCDC_TRACO_TBA1-xxxxE_Single_THT; Datasheet: https://www.tracopower.com/products/tba1e.pdf; Description_: 1W DC/DC converter unregulated, 10.8-13.2V input, 5V fixed output voltage, 200mA output, 1.5kVDC isolation, SIP-7
pins: 1 +Vin, 2 -Vin, 4 -Vout, 6 +Vout

## TBA1-1212
designator *  value TBA1-1212  Reference: U
1W DC/DC converter unregulated, 10.8-13.2V input, 12V fixed output voltage, 80mA output, 1.5kVDC isolation, SIP-4; ki_keywords: Traco isolated dc-dc not-regulated non-regulated single; ki_fp_filters: Converter*DCDC*TRACO*TBA1*xxxx*THT*; Footprint: Converter_DCDC:Converter_DCDC_TRACO_TBA1-xxxx_THT; Datasheet: https://www.tracopower.com/products/tba1.pdf; Description_: 1W DC/DC converter unregulated, 10.8-13.2V input, 12V fixed output voltage, 80mA output, 1.5kVDC isolation, SIP-4
pins: 1 -Vin, 2 +Vin, 3 -Vout, 4 +Vout

## TBA1-1212E
designator *  value TBA1-1212E  Reference: U
1W DC/DC converter unregulated, 10.8-13.2V input, 12V fixed output voltage, 84mA output, 1.5kVDC isolation, SIP-7; ki_keywords: Traco isolated isolation dc-dc converter not-regulated non-regulated single 1W; ki_fp_filters: Converter*DCDC*TRACO*TBA1*xxxxE*Single*; Footprint: Converter_DCDC:Converter_DCDC_TRACO_TBA1-xxxxE_Single_THT; Datasheet: https://www.tracopower.com/products/tba1e.pdf; Description_: 1W DC/DC converter unregulated, 10.8-13.2V input, 12V fixed output voltage, 84mA output, 1.5kVDC isolation, SIP-7
pins: 1 +Vin, 2 -Vin, 4 -Vout, 6 +Vout

## TBA1-1213
designator *  value TBA1-1213  Reference: U
1W DC/DC converter unregulated, 10.8-13.2V input, 15V fixed output voltage, 65mA output, 1.5kVDC isolation, SIP-4; ki_keywords: Traco isolated dc-dc not-regulated non-regulated single; ki_fp_filters: Converter*DCDC*TRACO*TBA1*xxxx*THT*; Footprint: Converter_DCDC:Converter_DCDC_TRACO_TBA1-xxxx_THT; Datasheet: https://www.tracopower.com/products/tba1.pdf; Description_: 1W DC/DC converter unregulated, 10.8-13.2V input, 15V fixed output voltage, 65mA output, 1.5kVDC isolation, SIP-4
pins: 1 -Vin, 2 +Vin, 3 -Vout, 4 +Vout

## TBA1-1213E
designator *  value TBA1-1213E  Reference: U
1W DC/DC converter unregulated, 10.8-13.2V input, 15V fixed output voltage, 66mA output, 1.5kVDC isolation, SIP-7; ki_keywords: Traco isolated isolation dc-dc converter not-regulated non-regulated single 1W; ki_fp_filters: Converter*DCDC*TRACO*TBA1*xxxxE*Single*; Footprint: Converter_DCDC:Converter_DCDC_TRACO_TBA1-xxxxE_Single_THT; Datasheet: https://www.tracopower.com/products/tba1e.pdf; Description_: 1W DC/DC converter unregulated, 10.8-13.2V input, 15V fixed output voltage, 66mA output, 1.5kVDC isolation, SIP-7
pins: 1 +Vin, 2 -Vin, 4 -Vout, 6 +Vout

## TBA1-1219
designator *  value TBA1-1219  Reference: U
1W DC/DC converter unregulated, 10.8-13.2V input, 9V fixed output voltage, 110mA output, 1.5kVDC isolation, SIP-4; ki_keywords: Traco isolated dc-dc not-regulated non-regulated single; ki_fp_filters: Converter*DCDC*TRACO*TBA1*xxxx*THT*; Footprint: Converter_DCDC:Converter_DCDC_TRACO_TBA1-xxxx_THT; Datasheet: https://www.tracopower.com/products/tba1.pdf; Description_: 1W DC/DC converter unregulated, 10.8-13.2V input, 9V fixed output voltage, 110mA output, 1.5kVDC isolation, SIP-4
pins: 1 -Vin, 2 +Vin, 3 -Vout, 4 +Vout

## TBA1-1221E
designator *  value TBA1-1221E  Reference: U
1W DC/DC converter unregulated, 10.8-13.2V input, ±5V fixed output voltage, 100mA each output, 1.5kVDC isolation, SIP-7; ki_keywords: Traco isolated isolation dc-dc DC/DC converter not-regulated non-regulated dual 1W; ki_fp_filters: Converter*DCDC*TRACO*TBA1*xxxxE*Dual*; Footprint: Converter_DCDC:Converter_DCDC_TRACO_TBA1-xxxxE_Dual_THT; Datasheet: https://www.tracopower.com/products/tba1e.pdf; Description_: 1W DC/DC converter unregulated, 10.8-13.2V input, ±5V fixed output voltage, 100mA each output, 1.5kVDC isolation, SIP-7
pins: 1 +Vin, 2 -Vin, 4 -Vout, 5 Com, 6 +Vout

## TBA1-1222E
designator *  value TBA1-1222E  Reference: U
1W DC/DC converter unregulated, 10.8-13.2V input, ±12V fixed output voltage, 41mA each output, 1.5kVDC isolation, SIP-7; ki_keywords: Traco isolated isolation dc-dc DC/DC converter not-regulated non-regulated dual 1W; ki_fp_filters: Converter*DCDC*TRACO*TBA1*xxxxE*Dual*; Footprint: Converter_DCDC:Converter_DCDC_TRACO_TBA1-xxxxE_Dual_THT; Datasheet: https://www.tracopower.com/products/tba1e.pdf; Description_: 1W DC/DC converter unregulated, 10.8-13.2V input, ±12V fixed output voltage, 41mA each output, 1.5kVDC isolation, SIP-7
pins: 1 +Vin, 2 -Vin, 4 -Vout, 5 Com, 6 +Vout

## TBA1-1223E
designator *  value TBA1-1223E  Reference: U
1W DC/DC converter unregulated, 10.8-13.2V input, ±15V fixed output voltage, 33mA each output, 1.5kVDC isolation, SIP-7; ki_keywords: Traco isolated isolation dc-dc DC/DC converter not-regulated non-regulated dual 1W; ki_fp_filters: Converter*DCDC*TRACO*TBA1*xxxxE*Dual*; Footprint: Converter_DCDC:Converter_DCDC_TRACO_TBA1-xxxxE_Dual_THT; Datasheet: https://www.tracopower.com/products/tba1e.pdf; Description_: 1W DC/DC converter unregulated, 10.8-13.2V input, ±15V fixed output voltage, 33mA each output, 1.5kVDC isolation, SIP-7
pins: 1 +Vin, 2 -Vin, 4 -Vout, 5 Com, 6 +Vout

## TBA1-2411
designator *  value TBA1-2411  Reference: U
1W DC/DC converter unregulated, 21.6-26.4V input, 5V fixed output voltage, 200mA output, 1.5kVDC isolation, SIP-4; ki_keywords: Traco isolated dc-dc not-regulated non-regulated single; ki_fp_filters: Converter*DCDC*TRACO*TBA1*xxxx*THT*; Footprint: Converter_DCDC:Converter_DCDC_TRACO_TBA1-xxxx_THT; Datasheet: https://www.tracopower.com/products/tba1.pdf; Description_: 1W DC/DC converter unregulated, 21.6-26.4V input, 5V fixed output voltage, 200mA output, 1.5kVDC isolation, SIP-4
pins: 1 -Vin, 2 +Vin, 3 -Vout, 4 +Vout

## TBA1-2411E
designator *  value TBA1-2411E  Reference: U
1W DC/DC converter unregulated, 21.6-26.4V input, 5V fixed output voltage, 200mA output, 1.5kVDC isolation, SIP-7; ki_keywords: Traco isolated isolation dc-dc converter not-regulated non-regulated single 1W; ki_fp_filters: Converter*DCDC*TRACO*TBA1*xxxxE*Single*; Footprint: Converter_DCDC:Converter_DCDC_TRACO_TBA1-xxxxE_Single_THT; Datasheet: https://www.tracopower.com/products/tba1e.pdf; Description_: 1W DC/DC converter unregulated, 21.6-26.4V input, 5V fixed output voltage, 200mA output, 1.5kVDC isolation, SIP-7
pins: 1 +Vin, 2 -Vin, 4 -Vout, 6 +Vout

## TBA1-2412
designator *  value TBA1-2412  Reference: U
1W DC/DC converter unregulated, 21.6-26.4V input, 12V fixed output voltage, 80mA output, 1.5kVDC isolation, SIP-4; ki_keywords: Traco isolated dc-dc not-regulated non-regulated single; ki_fp_filters: Converter*DCDC*TRACO*TBA1*xxxx*THT*; Footprint: Converter_DCDC:Converter_DCDC_TRACO_TBA1-xxxx_THT; Datasheet: https://www.tracopower.com/products/tba1.pdf; Description_: 1W DC/DC converter unregulated, 21.6-26.4V input, 12V fixed output voltage, 80mA output, 1.5kVDC isolation, SIP-4
pins: 1 -Vin, 2 +Vin, 3 -Vout, 4 +Vout

## TBA1-2412E
designator *  value TBA1-2412E  Reference: U
1W DC/DC converter unregulated, 21.6-26.4V input, 12V fixed output voltage, 84mA output, 1.5kVDC isolation, SIP-7; ki_keywords: Traco isolated isolation dc-dc converter not-regulated non-regulated single 1W; ki_fp_filters: Converter*DCDC*TRACO*TBA1*xxxxE*Single*; Footprint: Converter_DCDC:Converter_DCDC_TRACO_TBA1-xxxxE_Single_THT; Datasheet: https://www.tracopower.com/products/tba1e.pdf; Description_: 1W DC/DC converter unregulated, 21.6-26.4V input, 12V fixed output voltage, 84mA output, 1.5kVDC isolation, SIP-7
pins: 1 +Vin, 2 -Vin, 4 -Vout, 6 +Vout

## TBA1-2413
designator *  value TBA1-2413  Reference: U
1W DC/DC converter unregulated, 21.6-26.4V input, 15V fixed output voltage, 65mA output, 1.5kVDC isolation, SIP-4; ki_keywords: Traco isolated dc-dc not-regulated non-regulated single; ki_fp_filters: Converter*DCDC*TRACO*TBA1*xxxx*THT*; Footprint: Converter_DCDC:Converter_DCDC_TRACO_TBA1-xxxx_THT; Datasheet: https://www.tracopower.com/products/tba1.pdf; Description_: 1W DC/DC converter unregulated, 21.6-26.4V input, 15V fixed output voltage, 65mA output, 1.5kVDC isolation, SIP-4
pins: 1 -Vin, 2 +Vin, 3 -Vout, 4 +Vout

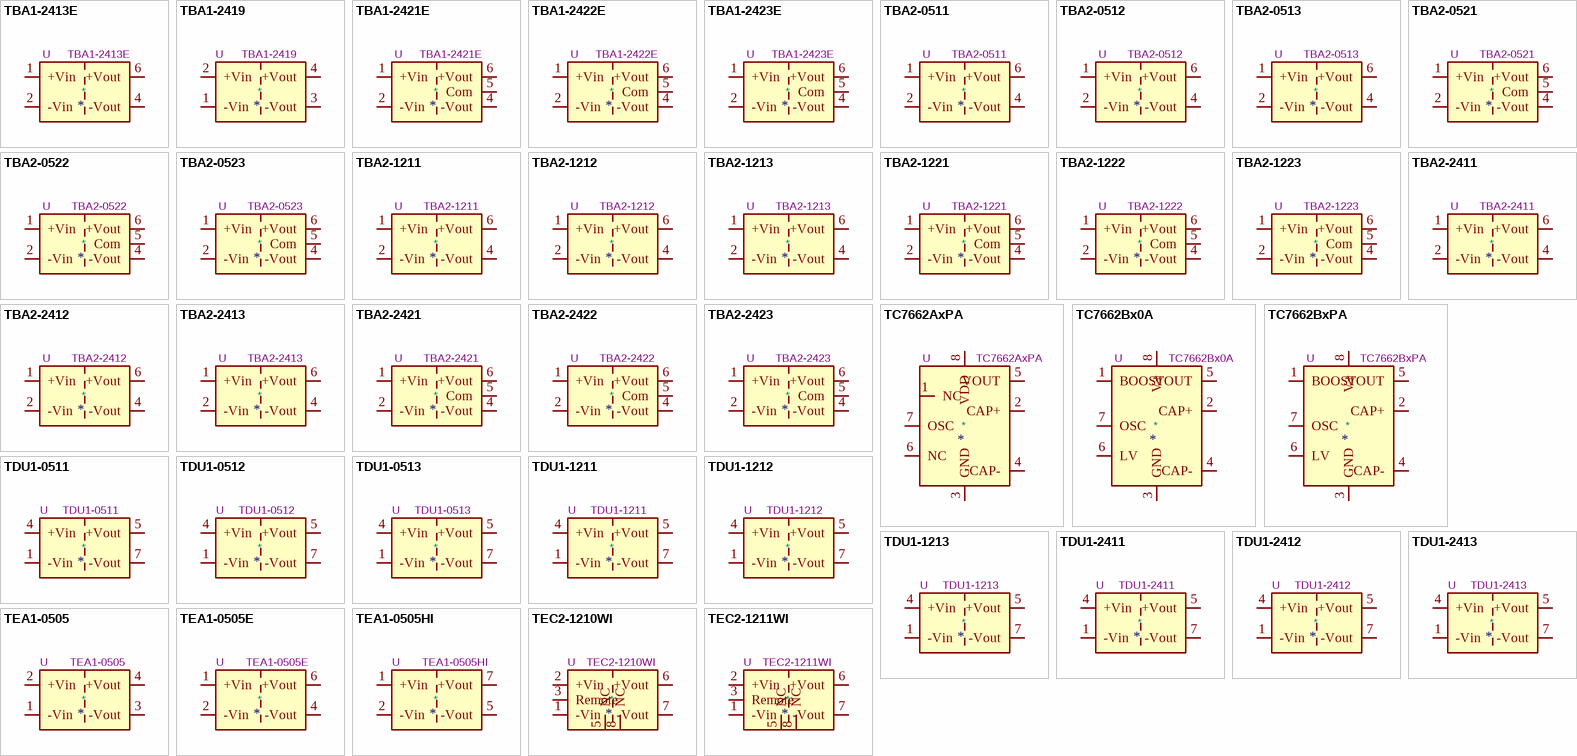
[diagram p13: symbols TBA1-2413E to TEC2-1211WI]

## TBA1-2413E
designator *  value TBA1-2413E  Reference: U
1W DC/DC converter unregulated, 21.6-26.4V input, 15V fixed output voltage, 66mA output, 1.5kVDC isolation, SIP-7; ki_keywords: Traco isolated isolation dc-dc converter not-regulated non-regulated single 1W; ki_fp_filters: Converter*DCDC*TRACO*TBA1*xxxxE*Single*; Footprint: Converter_DCDC:Converter_DCDC_TRACO_TBA1-xxxxE_Single_THT; Datasheet: https://www.tracopower.com/products/tba1e.pdf; Description_: 1W DC/DC converter unregulated, 21.6-26.4V input, 15V fixed output voltage, 66mA output, 1.5kVDC isolation, SIP-7
pins: 1 +Vin, 2 -Vin, 4 -Vout, 6 +Vout

## TBA1-2419
designator *  value TBA1-2419  Reference: U
1W DC/DC converter unregulated, 21.6-26.4V input, 9V fixed output voltage, 110mA output, 1.5kVDC isolation, SIP-4; ki_keywords: Traco isolated dc-dc not-regulated non-regulated single; ki_fp_filters: Converter*DCDC*TRACO*TBA1*xxxx*THT*; Footprint: Converter_DCDC:Converter_DCDC_TRACO_TBA1-xxxx_THT; Datasheet: https://www.tracopower.com/products/tba1.pdf; Description_: 1W DC/DC converter unregulated, 21.6-26.4V input, 9V fixed output voltage, 110mA output, 1.5kVDC isolation, SIP-4
pins: 1 -Vin, 2 +Vin, 3 -Vout, 4 +Vout

## TBA1-2421E
designator *  value TBA1-2421E  Reference: U
1W DC/DC converter unregulated, 21.6-26.4V input, ±5V fixed output voltage, 100mA each output, 1.5kVDC isolation, SIP-7; ki_keywords: Traco isolated isolation dc-dc DC/DC converter not-regulated non-regulated dual 1W; ki_fp_filters: Converter*DCDC*TRACO*TBA1*xxxxE*Dual*; Footprint: Converter_DCDC:Converter_DCDC_TRACO_TBA1-xxxxE_Dual_THT; Datasheet: https://www.tracopower.com/products/tba1e.pdf; Description_: 1W DC/DC converter unregulated, 21.6-26.4V input, ±5V fixed output voltage, 100mA each output, 1.5kVDC isolation, SIP-7
pins: 1 +Vin, 2 -Vin, 4 -Vout, 5 Com, 6 +Vout

## TBA1-2422E
designator *  value TBA1-2422E  Reference: U
1W DC/DC converter unregulated, 21.6-26.4V input, ±12V fixed output voltage, 41mA each output, 1.5kVDC isolation, SIP-7; ki_keywords: Traco isolated isolation dc-dc DC/DC converter not-regulated non-regulated dual 1W; ki_fp_filters: Converter*DCDC*TRACO*TBA1*xxxxE*Dual*; Footprint: Converter_DCDC:Converter_DCDC_TRACO_TBA1-xxxxE_Dual_THT; Datasheet: https://www.tracopower.com/products/tba1e.pdf; Description_: 1W DC/DC converter unregulated, 21.6-26.4V input, ±12V fixed output voltage, 41mA each output, 1.5kVDC isolation, SIP-7
pins: 1 +Vin, 2 -Vin, 4 -Vout, 5 Com, 6 +Vout

## TBA1-2423E
designator *  value TBA1-2423E  Reference: U
1W DC/DC converter unregulated, 21.6-26.4V input, ±15V fixed output voltage, 33mA each output, 1.5kVDC isolation, SIP-7; ki_keywords: Traco isolated isolation dc-dc DC/DC converter not-regulated non-regulated dual 1W; ki_fp_filters: Converter*DCDC*TRACO*TBA1*xxxxE*Dual*; Footprint: Converter_DCDC:Converter_DCDC_TRACO_TBA1-xxxxE_Dual_THT; Datasheet: https://www.tracopower.com/products/tba1e.pdf; Description_: 1W DC/DC converter unregulated, 21.6-26.4V input, ±15V fixed output voltage, 33mA each output, 1.5kVDC isolation, SIP-7
pins: 1 +Vin, 2 -Vin, 4 -Vout, 5 Com, 6 +Vout